# Altium footprint library Diode.PcbLib: 41 footprints (part 3 of 3)
Each footprint in its own frame and in the unit in brackets; x right, y up, seen from the top. Pads: shape width x height; smd on the part's side, far side on the other; paste and mask are expansions set on the pad; w line width, h text height; cw(c..) or ccw(c..) is an arc to the next point about the centre after c.
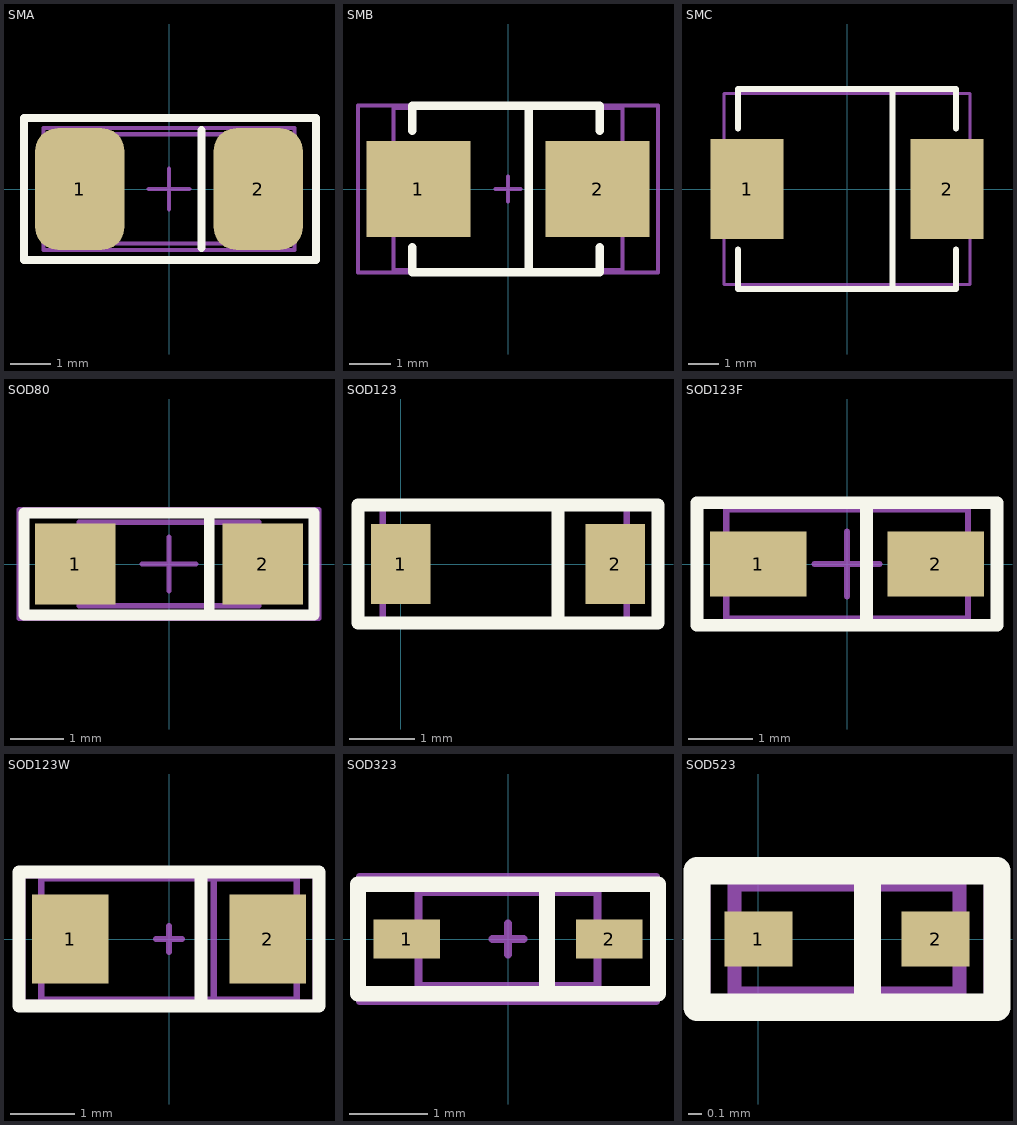
[diagram p2: the footprints below, top view; thin cyan lines are the x and y axes]

## SMA [mm]
pads (3):
  rrect50% 2.2x3 smd: 1(-2.2,0) 2(2.2,0)
  round 0.5 on Mech1: ""(2,0.9)
Top Overlay:
  lines w0.2: 0.8,-1.45 0.8,1.45 ; -3.575,-1.75 3.625,-1.75 3.625,1.75 -3.575,1.75 -3.575,-1.75
Mechanical 1:
  lines w0.1: -2.5,-1.35 2.5,-1.35 2.5,1.35 -2.5,1.35 -2.5,-1.35
Mechanical 15:
  lines w0.1: -0.5,0 0.5,0 ; 0,-0.5 0,0.5 ; -3.1,-1.5 -3.1,1.5 3.1,1.5 3.1,-1.5 -3.1,-1.5
3D body "User Library-Diode Molded BodyDIOM5025X231N.STEP": height 2.28, standoff -0.03, extent -2.5,-1.35 2.5,1.35

## SMB [mm]
pads (2):
  rect 2.5x2.3 smd: 1(-2.15,0) 2(2.15,0)
Top Overlay:
  lines w0.2: -2.3,-1.4 -2.3,-2 2.2,-2 2.2,-1.4 ; -2.3,1.4 -2.3,2 2.2,2 2.2,1.4 ; 0.5,-2 0.5,2
Mechanical 1:
  lines w0.1: 0.5,-1.95 0.5,1.95 ; -2.75,-1.95 -2.75,1.95 2.75,1.95 2.75,-1.95 -2.75,-1.95
Mechanical 15:
  lines w0.1: -0.3,0 0.3,0 ; 0,-0.3 0,0.3 ; -3.6,-2 3.6,-2 3.6,2 -3.6,2 -3.6,-2
3D body "User Library-DIOM5539X24.STEP": height 2.45, standoff 0.03, extent -2.75,-1.95 2.75,1.95

## SMC [mm]
pads (2):
  rect 2.4x3.3 smd: 1(-3.3,0) 2(3.3,0)
Top Overlay:
  lines w0.2: -3.6,-2 -3.6,-3.3 3.6,-3.3 3.6,-2 ; -3.6,2 -3.6,3.3 3.6,3.3 3.6,2 ; 1.5,-3.3 1.5,3.3
Mechanical 1:
  lines w0.1: 1.5,-3.15 1.5,3.15 ; -4.064,-3.15 4.064,-3.15 4.064,3.15 -4.064,3.15 -4.064,-3.15
3D body "User Library-DO-214AB(SMC).STEP": height 2.67, standoff 0.03, extent -4.064,-3.15 4.064,3.15

## SOD80 [mm]
height 2
pads (2):
  rect 1.5x1.5 smd: 1(-1.75,0) 2(1.75,0)
Top Overlay:
  lines w0.2: 0.75,-0.925 0.75,0.925 ; -2.7,-0.95 2.7,-0.95 2.7,0.95 -2.7,0.95 -2.7,-0.95
Mechanical 1:
  lines w0.1: 0.75,-0.775 0.75,0.775 ; -1.676,-0.775 1.675,-0.775 1.675,0.775 -1.676,0.775 -1.676,-0.775
Mechanical 15:
  lines w0.1: -0.5,0 0.5,0 ; 0,-0.5 0,0.5 ; -2.794,-1.016 -2.794,1.016 2.794,1.016 2.794,-1.016 -2.794,-1.016
3D body "SOD80-2.step": height 1.52, standoff -0.02, extent -1.676,-0.777 1.677,0.762

## SOD123 [mm]
pads (2):
  rect 0.91x1.22 smd: 1(0,0) 2(3.275,0)
Top Overlay:
  lines w0.2: 2.4,-0.9 2.4,0.9 ; -0.65,-0.9 -0.65,0.9 3.925,0.9 3.925,-0.9 -0.65,-0.9
Mechanical 1:
  lines w0.1: 2.4,-0.9 2.4,0.9 ; -0.275,-0.9 -0.275,0.9 3.45,0.9 3.45,-0.9 -0.275,-0.9
Mechanical 15:
  lines w0.1: -0.65,-0.9 -0.65,0.9 3.925,0.9 3.925,-0.9 -0.65,-0.9
3D body "User Library-SOD-123.STEP": height 1.25, standoff 0, extent -0.249,-0.8 3.449,0.8

## SOD123F [mm]
height 1
pads (2):
  rect 1.5x1 smd: 1(-1.375,0) 2(1.375,0)
Top Overlay:
  lines w0.2: 0.3,-0.9 0.3,0.925 ; -2.325,-0.95 2.325,-0.95 2.325,0.95 -2.325,0.95 -2.325,-0.95
Mechanical 1:
  lines w0.1: 0.3,-0.85 0.3,0.85 ; -1.875,-0.85 -1.875,0.85 1.875,0.85 1.875,-0.85 -1.875,-0.85
Mechanical 15:
  lines w0.1: -0.5,0 0.5,0 ; 0,-0.5 0,0.5 ; -2.325,-0.95 -2.325,0.95 2.325,0.95 2.325,-0.95 -2.325,-0.95
3D body "SOD123F.STEP": height 1.23, standoff 0.02, extent -1.875,-0.85 1.875,0.85

## SOD123W [mm]
pads (2):
  rect 1.2x1.4 smd: 1(-1.55,0) 2(1.55,0)
Top Overlay:
  lines w0.2: 0.5,-1.05 0.5,1.05 ; -2.35,-1.05 -2.35,1.05 2.35,1.05 2.35,-1.05 -2.35,-1.05
Mechanical 1:
  lines w0.1: 0.7,-0.95 0.7,0.95 ; 2,-0.95 2,0.95 ; 2,-0.95 2,-0.95 ; 2,-0.95 -2,-0.95 -2,0.95 2,0.95 ; 2,0.95 2,0.95
Mechanical 15:
  lines w0.1: -0.2,0 0.2,0 ; 0,-0.2 0,0.2 ; -2.3,-1 2.3,-1 2.3,1 -2.3,1 -2.3,-1
3D body "User Library-SOD123W.STEP": height 1.1, standoff -0.01, extent -2,-0.95 2,0.95

## SOD323 [mm]
pads (2):
  rect 0.85x0.5 smd: 1(-1.3,0) 2(1.3,0)
Top Overlay:
  lines w0.2: 0.5,-0.7 0.5,0.7 ; -1.925,-0.7 -1.925,0.7 1.925,0.7 1.925,-0.7 -1.925,-0.7
Mechanical 1:
  lines w0.1: 0.5,-0.6 0.5,0.575 ; -1.15,-0.6 1.15,-0.6 1.15,0.6 -1.15,0.6 -1.15,-0.6
Mechanical 15:
  lines w0.1: -0.2,0 0.2,0 ; 0,-0.2 0,0.2 ; -1.9,-0.8 -1.9,0.8 1.9,0.8 1.9,-0.8 -1.9,-0.8
3D body "User Library-1N4148WS.STEP": height 1.04, standoff -0.06, extent -1.15,-0.6 1.15,0.6

## SOD523 [mm]
pads (2):
  rect 0.5x0.4 smd: 1(0,0) 2(1.3,0)
Top Overlay:
  lines w0.2: 0.8,-0.4 0.8,0.5 ; -0.45,-0.5 1.75,-0.5 1.75,0.5 -0.45,0.5 -0.45,-0.5
Mechanical 1:
  lines w0.1: 0.8,-0.4 0.8,0.4 ; -0.175,-0.4 -0.175,0.4 1.4,0.4 1.475,0.4 1.475,-0.4 -0.175,-0.4
Mechanical 15:
  lines w0.1: -0.4,-0.5 1.7,-0.5 1.7,0.5 -0.4,0.5 -0.4,-0.5
3D body "User Library-SOD523-2.STEP": height 0.65, standoff 0, extent -0.175,-0.4 1.475,0.4